# Altium footprint library PCBLIB_Autobot.PcbLib: 1 footprints
Each footprint in its own frame and in the unit in brackets; x right, y up, seen from the top. Pads: shape width x height; smd on the part's side, far side on the other; paste and mask are expansions set on the pad; w line width, h text height; cw(c..) or ccw(c..) is an arc to the next point about the centre after c.
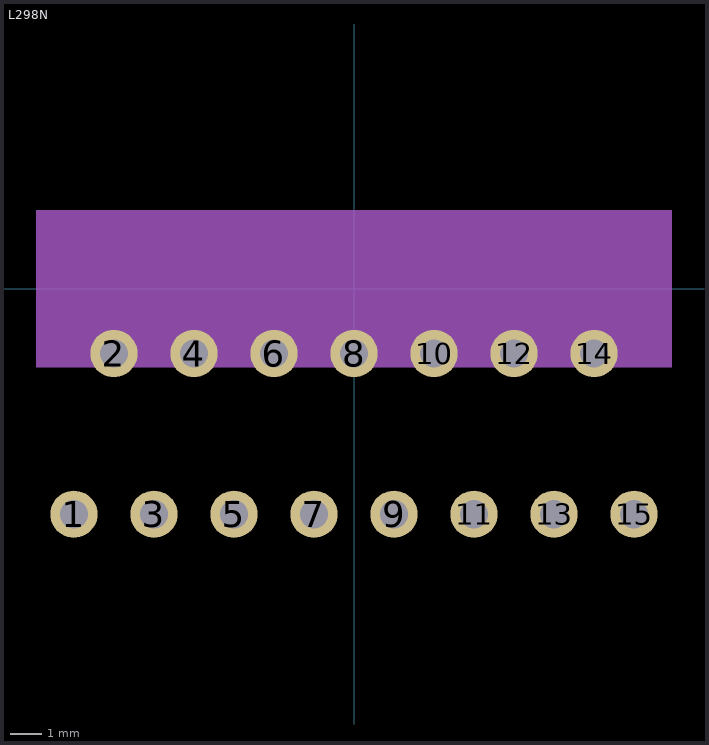
[diagram p0: the footprint, top view; thin cyan lines are the x and y axes]

## L298N [mm] "Motor Controller - Multiwatt15 V"
height 18
pads (15):
  round 1.5 hole 0.9: 1(-8.89,-7.15) 2(-7.62,-2.05) 3(-6.35,-7.15) 4(-5.08,-2.05) 5(-3.81,-7.15) 6(-2.54,-2.05) 7(-1.27,-7.15) 8(0,-2.05) 9(1.27,-7.15) 10(2.54,-2.05) 11(3.81,-7.15) 12(5.08,-2.05) 13(6.35,-7.15) 14(7.62,-2.05) 15(8.89,-7.15)
Mechanical 1:
  rectangle: -10.1,-2.5 10.1,2.5